# EAGLE library part LDC1612 (library scono)
2-Channel inductance sensor from TI
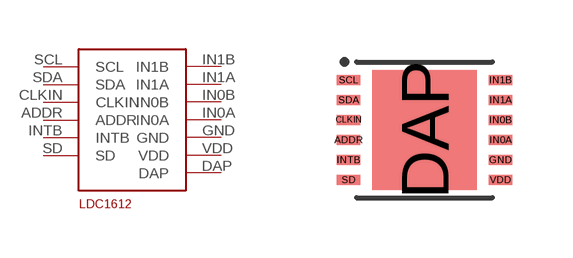
[diagram p20: symbol with the pads of WSON-12; footprint WSON-12]

Designator prefix -

## LDC1612  [WSON-12]
ADDR  ADDR  in
CLKIN  CLKIN  in
DAP  DAP
GND  GND  pwr
IN0A  IN0A  in
IN0B  IN0B  in
IN1A  IN1A  in
IN1B  IN1B  in
INTB  INTB  out
SCL  SCL  in
SD  SD  in
SDA  SDA
VDD  VDD  pwr

## Footprint WSON-12 (pad centres in mm)
smd 0.6 x 0.25: ADDR -1.9,-0.25; CLKIN -1.9,0.25; GND 1.9,-0.75; IN0A 1.9,-0.25; IN0B 1.9,0.25; IN1A 1.9,0.75; IN1B 1.9,1.25; INTB -1.9,-0.75; SCL -1.9,1.25; SD -1.9,-1.25; SDA -1.9,0.75; VDD 1.9,-1.25
smd 2.6 x 3: DAP 0,0